# EAGLE library part TXB0104PWR (library microfloat)
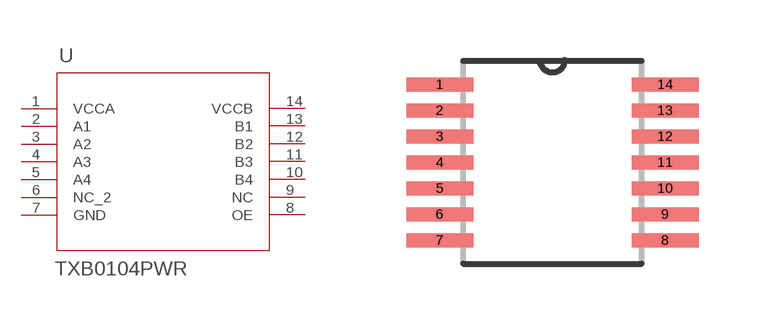
[diagram p2: symbol with the pads of PW14; footprint PW14]

Designator prefix U

## TXB0104PWR (DATASHEET_URL: http://www.ti.com/lit/gpn/TXB0104; DESCRIPTION: 4-Bit Bidirectional Voltage-Level Translator with Auto Direction Sensing and +/-15 kV ESD Protect; MANUFACTURER_PART_NUMBER: TXB0104PWR)  [PW14]
1  VCCA  pwr
2  A1
3  A2
4  A3
5  A4
6  NC_2  pas
7  GND  pwr
8  OE  out
9  NC  pas
10  B4
11  B3
12  B2
13  B1
14  VCCB  pwr

## Footprint PW14 (pad centres in mm)
smd 1.676 x 0.356: 1 -2.819,1.95; 2 -2.819,1.3; 3 -2.819,0.65; 4 -2.819,0; 5 -2.819,-0.65; 6 -2.819,-1.3; 7 -2.819,-1.95; 8 2.819,-1.95; 9 2.819,-1.3; 10 2.819,-0.65; 11 2.819,0; 12 2.819,0.65; 13 2.819,1.3; 14 2.819,1.95